# Altium schematic symbol library EL-sense_Zener_diode.SchLib: 1 symbol
Pins are listed as number, name and electrical type; pins without a type are passive.

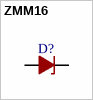
[diagram p0: symbol ZMM16]

## ZMM16
designator D?
Manufacturer: DIODES INC.; Vdss: 16V; Power: 500 mW; Case: Minimelf; Supplier 1: BelChip; Supplier Part Number 1: 05323; ComponentLink1Description: HelpURL; ComponentLink1URL: https://belchip.by/sitedocs/zmm.pdf
footprint MiniMELF, Glass
pins: 1 A, 2 C